# Altium footprint library TL1963A-15_DCY_4.PcbLib: 1 footprints
Each footprint in its own frame and in the unit in brackets; x right, y up, seen from the top. Pads: shape width x height; smd on the part's side, far side on the other; paste and mask are expansions set on the pad; w line width, h text height; cw(c..) or ccw(c..) is an arc to the next point about the centre after c.
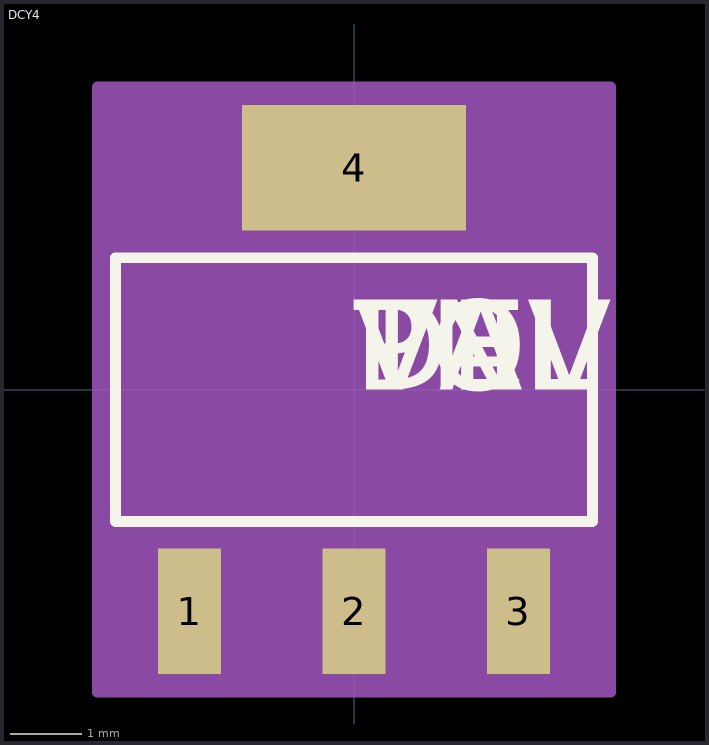
[diagram p0: the footprint, top view; thin cyan lines are the x and y axes]

## DCY4 [mil]
pads (4):
  rect 35x69.5 smd: 1(-91,-122.75) 2(0,-122.75) 3(91,-122.75)
  rect 124x69.5 smd: 4(0,122.75)
Top Overlay:
  lines w6: -132,-73 132,-73 132,73 -132,73 -132,-73
  text "PN" at 0,0 h50
  text "DEV" at 0,0 h50
  text "VAL" at 0,0 h50
  text "TOL" at 0,0 h50
Mechanical 13:
  text "RefDes2" at 0,0 h50
Mechanical 15:
  region: 142,-167.5 -142,-167.5 -142,167.5 142,167.5
  lines w6: -142,-167.5 -142,167.5 142,167.5 142,-167.5 -142,-167.5